# Altium footprint library electronpowered.PcbLib: 83 footprints (part 2 of 6)
Each footprint in its own frame and in the unit in brackets; x right, y up, seen from the top. Pads: shape width x height; smd on the part's side, far side on the other; paste and mask are expansions set on the pad; w line width, h text height; cw(c..) or ccw(c..) is an arc to the next point about the centre after c.
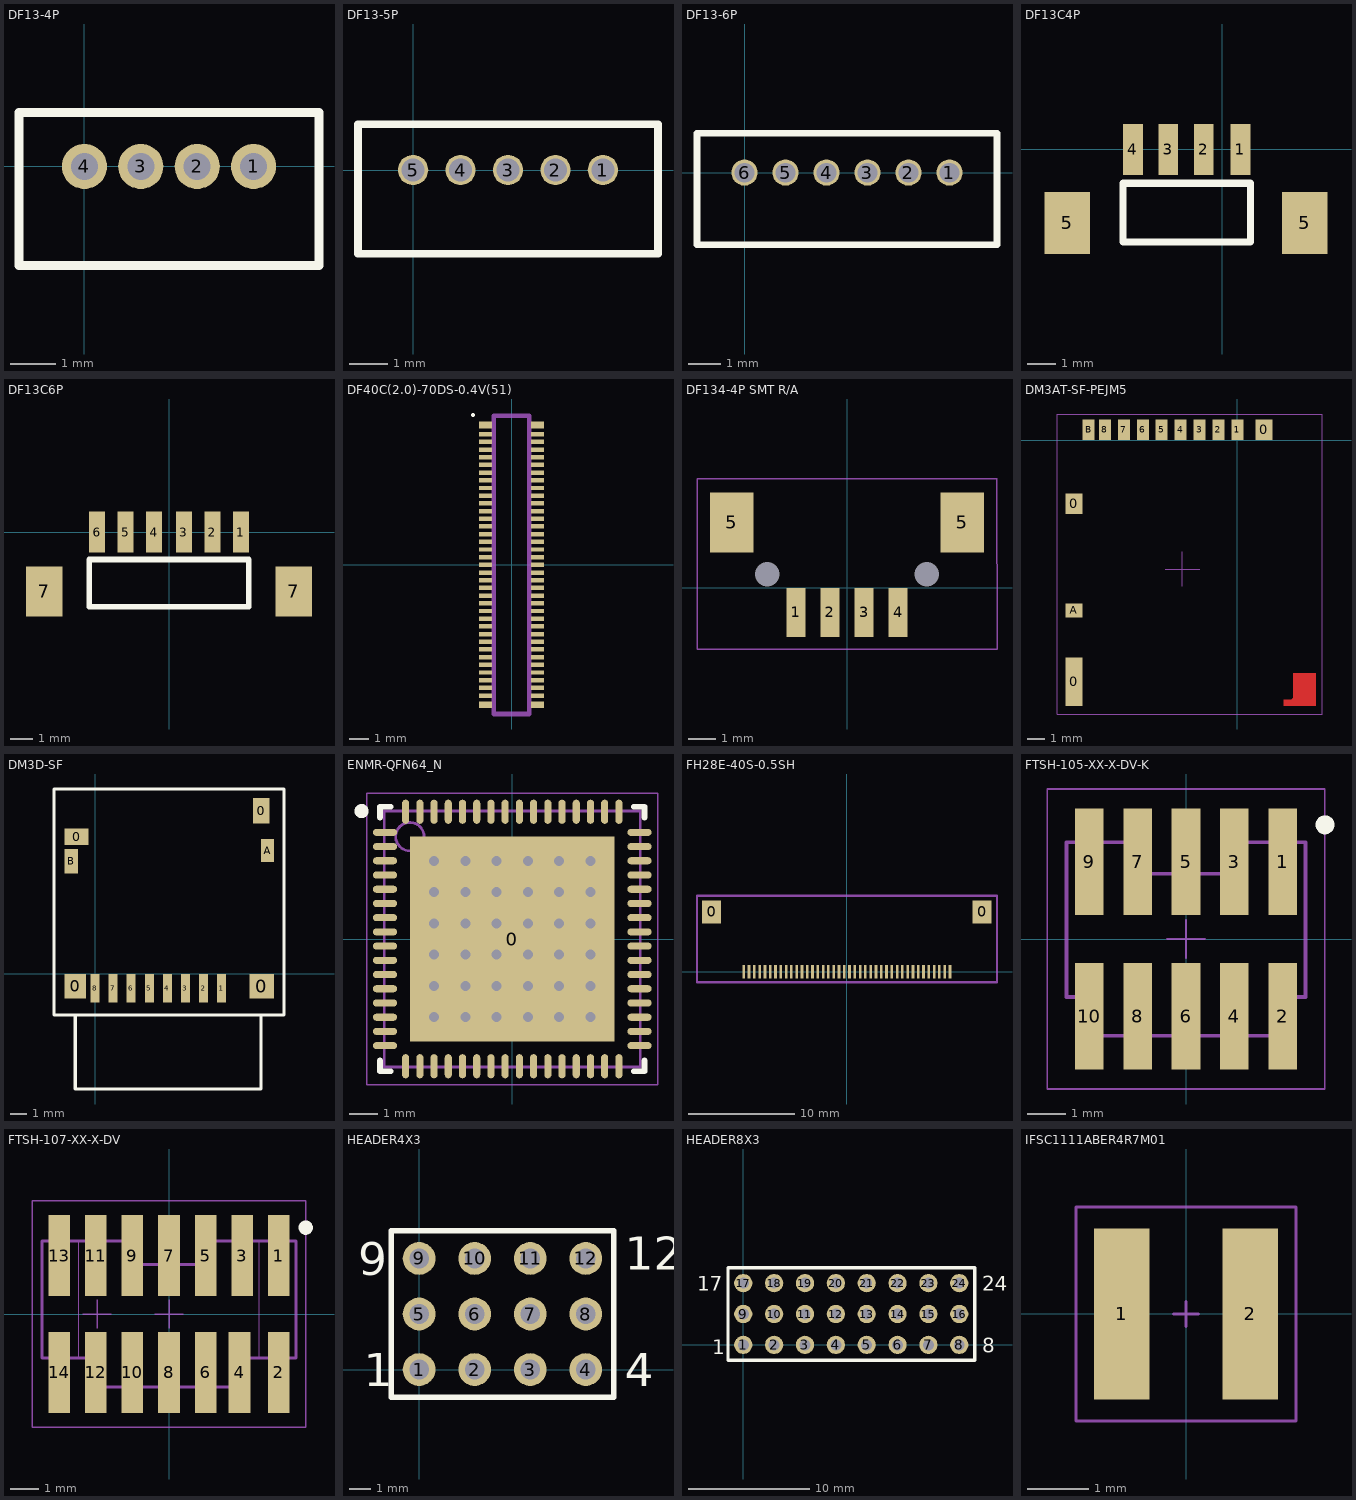
[diagram p1: the footprints below, top view; thin cyan lines are the x and y axes]

## DF13-4P [mm] "4 Pin DF13 through hole"
height 4.3
pads (4):
  round 1 hole 0.6: 1(3.75,0) 2(2.5,0) 3(1.25,0) 4(0,0)
Top Overlay:
  lines w0.2: -1.45,-2.2 5.2,-2.2 5.2,1.2 -1.45,1.2 -1.45,-2.2

## DF13-5P [mm] "5 Pin DF13 through hole"
height 4.3
pads (5):
  round 0.8 hole 0.6: 1(5,0) 2(3.75,0) 3(2.5,0) 4(1.25,0) 5(0,0)
Top Overlay:
  lines w0.2: -1.45,-2.2 6.45,-2.2 6.45,1.2 -1.45,1.2 -1.45,-2.2

## DF13-6P [mm] "6 Pin DF13 through hole"
height 4.3
pads (6):
  round 0.8 hole 0.6: 1(6.25,0) 2(5,0) 3(3.75,0) 4(2.5,0) 5(1.25,0) 6(0,0)
Top Overlay:
  lines w0.2: -1.45,-2.2 -1.45,1.2 7.7,1.2 7.7,-2.2 -1.45,-2.2

## DF13C4P [mm]
pads (6):
  rect 0.7x1.8 smd: 1(0.65,0) 2(-0.65,0) 3(-1.9,0) 4(-3.15,0)
  rect 1.6x2.2 smd: 5(-5.475,-2.6) 5(2.925,-2.6)
Top Overlay:
  lines w0.254: -3.5,-3.27 -3.5,-1.2 1,-1.2 1,-3.27 -3.5,-3.27

## DF13C6P [mm]
pads (8):
  rect 0.7x1.8 smd: 1(3.15,0) 2(1.9,0) 3(0.65,0) 4(-0.65,0) 5(-1.9,0) 6(-3.15,0)
  rect 1.6x2.2 smd: 7(-5.475,-2.6) 7(5.475,-2.6)
Top Overlay:
  lines w0.254: -3.5,-3.27 -3.5,-1.2 3.5,-1.2 3.5,-3.27 -3.5,-3.27

## DF40C(2.0)-70DS-0.4V(51) [mm]
pads (74):
  rect 0.66x0.23 smd: 1(-1.355,6.8) 2(1.355,6.8) 3(-1.355,6.4) 4(1.355,6.4) 5(-1.355,6) 6(1.355,6) 7(-1.355,5.6) 8(1.355,5.6) 9(-1.355,5.2) 10(1.355,5.2) 11(-1.355,4.8) 12(1.355,4.8) 13(-1.355,4.4) 14(1.355,4.4) 15(-1.355,4) 16(1.355,4) 17(-1.355,3.6) 18(1.355,3.6) 19(-1.355,3.2) 20(1.355,3.2) 21(-1.355,2.8) 22(1.355,2.8) 23(-1.355,2.4) 24(1.355,2.4) 25(-1.355,2) 26(1.355,2) 27(-1.355,1.6) 28(1.355,1.6) 29(-1.355,1.2) 30(1.355,1.2) 31(-1.355,0.8) 32(1.355,0.8) 33(-1.355,0.4) 34(1.355,0.4) 35(-1.355,0) 36(1.355,0) 37(-1.355,-0.4) 38(1.355,-0.4) 39(-1.355,-0.8) 40(1.355,-0.8) 41(-1.355,-1.2) 42(1.355,-1.2) 43(-1.355,-1.6) 44(1.355,-1.6) 45(-1.355,-2) 46(1.355,-2) 47(-1.355,-2.4) 48(1.355,-2.4) 49(-1.355,-2.8) 50(1.355,-2.8) 51(-1.355,-3.2) 52(1.355,-3.2) 53(-1.355,-3.6) 54(1.355,-3.6) 55(-1.355,-4) 56(1.355,-4) 57(-1.355,-4.4) 58(1.355,-4.4) 59(-1.355,-4.8) 60(1.355,-4.8) 61(-1.355,-5.2) 62(1.355,-5.2) 63(-1.355,-5.6) 64(1.355,-5.6) 65(-1.355,-6) 66(1.355,-6) 67(-1.355,-6.4) 68(1.355,-6.4) 69(-1.355,-6.8) 70(1.355,-6.8)
  rect 0.66x0.35 smd: ""(-1.355,-7.275) ""(-1.355,7.275) ""(1.355,-7.275) ""(1.355,7.275)
Top Overlay:
  circle w0.1: c-2,7.8 r0.05
Top Comp Body:
  lines w0.254: -0.925,-7.76 -0.925,7.76 0.925,7.76 0.925,-7.76 -0.925,-7.76
3D body "DF40C(2.0)-70DS.stp": height 1.9, standoff -0.05, extent -1.69,-8.285 1.69,8.315

## DF134-4P SMT R/A [mm] "CONN HEADER 4POS 1.25MM R/A TIN"
pads (8):
  rect 0.7x1.8 smd: 1(-1.875,-0.9) 2(-0.625,-0.9) 3(0.625,-0.9) 4(1.875,-0.9)
  rect 1.6x2.2 smd: 5(-4.225,2.4) 5(4.225,2.4)
  round 0 hole 0.9: ""(-2.925,0.5) ""(2.925,0.5)
Top Courtyard:
  lines w0.05: -5.5,-2.25 -5.5,4 5.5,4 5.5,-2.25 -5.5,-2.25

## DM3AT-SF-PEJM5 [mm] "Hirose uSD connector SMT"
pads (13):
  rect 1x2.8 smd: 0(-9.5,-14.05)
  rect 1x1.2 smd: 0(-9.5,-3.7) 0(1.55,0.6)
  rect 0.7x1.2 smd: 1(0,0.6) 2(-1.1,0.6) 3(-2.2,0.6) 4(-3.3,0.6) 5(-4.4,0.6) 6(-5.5,0.6) 7(-6.6,0.6) 8(-7.7,0.6) B(-8.65,0.6)
  rect 1x0.8 smd: A(-9.5,-9.9)
Top Layer:
  region: 2.7,-15.1 2.7,-15.45 4.55,-15.45 4.55,-13.55 3.25,-13.55 3.25,-14.975 3.125,-15.1
Top Courtyard:
  lines w0.05: -4.2,-7.5 -2.2,-7.5 ; -3.2,-8.5 -3.2,-6.5 ; -10.475,-15.925 4.925,-15.925 4.925,1.525 -10.475,1.525 -10.475,-15.925

## DM3D-SF [mm] "Hirose DM3 series MicroSD connector. Push pull type."
height 2
pads (14):
  rect 1.3x1.5 smd: 0(-1.2,-0.75)
  rect 1.45x1 smd: 0(-1.125,8.35)
  rect 1x1.55 smd: 0(10.1,9.925)
  rect 1.5x1.5 smd: 0(10.15,-0.75)
  rect 0.55x1.75 smd: 1(7.7,-0.875) 2(6.6,-0.875) 3(5.5,-0.875) 4(4.4,-0.875) 5(3.3,-0.875) 6(2.2,-0.875) 7(1.1,-0.875) 8(0,-0.875)
  rect 0.8x1.4 smd: A(10.5,7.5)
  rect 0.8x1.5 smd: B(-1.45,6.85)
Top Overlay:
  lines w0.2: -1.2,-2.5 -1.2,-7 10.1,-7 10.1,-2.5 ; -2.5,-2.5 11.5,-2.5 11.5,11.25 -2.5,11.25 -2.5,-2.5

## ENMR-QFN64_N [mm] "QFN, 64-Leads, Body 9x9mm, Pitch 0.5mm, IPC Medium Density"
height 0.9
pads (65):
  rect 7.2x7.2 smd: 0(0,0)
  oval 0.85x0.25 smd: 1(-4.475,3.75) 2(-4.475,3.25) 3(-4.475,2.75) 4(-4.475,2.25) 5(-4.475,1.75) 6(-4.475,1.25) 7(-4.475,0.75) 8(-4.475,0.25) 9(-4.475,-0.25) 10(-4.475,-0.75) 11(-4.475,-1.25) 12(-4.475,-1.75) 13(-4.475,-2.25) 14(-4.475,-2.75) 15(-4.475,-3.25) 16(-4.475,-3.75) 33(4.475,-3.75) 34(4.475,-3.25) 35(4.475,-2.75) 36(4.475,-2.25) 37(4.475,-1.75) 38(4.475,-1.25) 39(4.475,-0.75) 40(4.475,-0.25) 41(4.475,0.25) 42(4.475,0.75) 43(4.475,1.25) 44(4.475,1.75) 45(4.475,2.25) 46(4.475,2.75) 47(4.475,3.25) 48(4.475,3.75)
  oval 0.25x0.85 smd: 17(-3.75,-4.475) 18(-3.25,-4.475) 19(-2.75,-4.475) 20(-2.25,-4.475) 21(-1.75,-4.475) 22(-1.25,-4.475) 23(-0.75,-4.475) 24(-0.25,-4.475) 25(0.25,-4.475) 26(0.75,-4.475) 27(1.25,-4.475) 28(1.75,-4.475) 29(2.25,-4.475) 30(2.75,-4.475) 31(3.25,-4.475) 32(3.75,-4.475) 49(3.75,4.475) 50(3.25,4.475) 51(2.75,4.475) 52(2.25,4.475) 53(1.75,4.475) 54(1.25,4.475) 55(0.75,4.475) 56(0.25,4.475) 57(-0.25,4.475) 58(-0.75,4.475) 59(-1.25,4.475) 60(-1.75,4.475) 61(-2.25,4.475) 62(-2.75,4.475) 63(-3.25,4.475) 64(-3.75,4.475)
via 2.75,-2.75 diameter 0.8 hole 0.35
via 1.65,-2.75 diameter 0.8 hole 0.35
via 0.55,-2.75 diameter 0.8 hole 0.35
via -0.55,-2.75 diameter 0.8 hole 0.35
via -1.65,-2.75 diameter 0.8 hole 0.35
via -2.75,-2.75 diameter 0.8 hole 0.35
via 2.75,-1.65 diameter 0.8 hole 0.35
via 1.65,-1.65 diameter 0.8 hole 0.35
via 0.55,-1.65 diameter 0.8 hole 0.35
via -0.55,-1.65 diameter 0.8 hole 0.35
via -1.65,-1.65 diameter 0.8 hole 0.35
via -2.75,-1.65 diameter 0.8 hole 0.35
via 2.75,-0.55 diameter 0.8 hole 0.35
via 1.65,-0.55 diameter 0.8 hole 0.35
via 0.55,-0.55 diameter 0.8 hole 0.35
via -0.55,-0.55 diameter 0.8 hole 0.35
via -1.65,-0.55 diameter 0.8 hole 0.35
via -2.75,-0.55 diameter 0.8 hole 0.35
via 2.75,0.55 diameter 0.8 hole 0.35
via 1.65,0.55 diameter 0.8 hole 0.35
via 0.55,0.55 diameter 0.8 hole 0.35
via -0.55,0.55 diameter 0.8 hole 0.35
via -1.65,0.55 diameter 0.8 hole 0.35
via -2.75,0.55 diameter 0.8 hole 0.35
via 2.75,1.65 diameter 0.8 hole 0.35
via 1.65,1.65 diameter 0.8 hole 0.35
via 0.55,1.65 diameter 0.8 hole 0.35
via -0.55,1.65 diameter 0.8 hole 0.35
via -1.65,1.65 diameter 0.8 hole 0.35
via -2.75,1.65 diameter 0.8 hole 0.35
via 2.75,2.75 diameter 0.8 hole 0.35
via 1.65,2.75 diameter 0.8 hole 0.35
via 0.55,2.75 diameter 0.8 hole 0.35
via -0.55,2.75 diameter 0.8 hole 0.35
via -1.65,2.75 diameter 0.8 hole 0.35
via -2.75,2.75 diameter 0.8 hole 0.35
Top Overlay:
  circle w0.25: c-5.3,4.5 r0.125
  lines w0.2: -4.65,-4.275 -4.65,-4.65 -4.275,-4.65 ; -4.65,4.275 -4.65,4.65 -4.275,4.65 ; 4.275,-4.65 4.65,-4.65 4.65,-4.275 ; 4.275,4.65 4.65,4.65 4.65,4.275
Top Comp Body:
  circle w0.1: c-3.6,3.6 r0.5
  lines w0.1: -4.5,-4.5 4.5,-4.5 4.5,4.5 -4.5,4.5 -4.5,-4.5
Top Courtyard:
  lines w0.05: -5.125,-5.125 5.125,-5.125 5.125,5.125 -5.125,5.125 -5.125,-5.125
  lines w0.1: -0.5,0 0.5,0 ; 0,-0.5 0,0.5
3D body: height 0.9, standoff 0, extent -4.5,-4.5 4.5,4.5

## FH28E-40S-0.5SH [mm] "CONN FPC 40POS 0.5MM SMD GOLD"
height 2.54
pads (42):
  rect 1.8x2.2 smd: 0(-12.8,5.65) 0(12.8,5.65)
  rect 0.25x1.3 smd: 1(-9.75,0) 2(-9.25,0) 3(-8.75,0) 4(-8.25,0) 5(-7.75,0) 6(-7.25,0) 7(-6.75,0) 8(-6.25,0) 9(-5.75,0) 10(-5.25,0) 11(-4.75,0) 12(-4.25,0) 13(-3.75,0) 14(-3.25,0) 15(-2.75,0) 16(-2.25,0) 17(-1.75,0) 18(-1.25,0) 19(-0.75,0) 20(-0.25,0) 21(0.25,0) 22(0.75,0) 23(1.25,0) 24(1.75,0) 25(2.25,0) 26(2.75,0) 27(3.25,0) 28(3.75,0) 29(4.25,0) 30(4.75,0) 31(5.25,0) 32(5.75,0) 33(6.25,0) 34(6.75,0) 35(7.25,0) 36(7.75,0) 37(8.25,0) 38(8.75,0) 39(9.25,0) 40(9.75,0)
Top Courtyard:
  lines w0.2: -14.175,-1 14.2,-1 14.2,7.175 -14.175,7.175 -14.175,-1

## FTSH-105-XX-X-DV-K [mm] "1.27mm pitch, 10 pin, terminal strip; vertical, SMT"
height 5.97
pads (10):
  rect 0.75x2.8 smd mask+0: 1(2.54,2.03) 2(2.54,-2.03) 3(1.27,2.03) 4(1.27,-2.03) 5(0,2.03) 6(0,-2.03) 7(-1.27,2.03) 8(-1.27,-2.03) 9(-2.54,2.03) 10(-2.54,-2.03)
Top Overlay:
  circle w0.25: c3.65,3 r0.125
Bottom Dimension:
  lines w0.001: -3.137,-1.524 -2.54,-1.524 -2.54,-2.54 2.54,-2.54 2.54,-1.524 3.137,-1.524 3.137,2.54 1.079,2.54 1.079,1.714 -1.079,1.714 -1.079,2.54 -3.137,2.54 -3.137,-1.524
Top Comp Body:
  lines w0.1: -3.137,-1.524 -2.54,-1.524 -2.54,-2.54 2.54,-2.54 2.54,-1.524 3.137,-1.524 3.137,2.54 1.079,2.54 1.079,1.714 -1.079,1.714 -1.079,2.54 -3.137,2.54 -3.137,-1.524
Top Courtyard:
  lines w0.05: -0.5,0 0.5,0 ; 0,-0.5 0,0.5 ; -3.645,-3.937 -3.645,3.937 3.645,3.937 3.645,-3.937 -3.645,-3.937
3D body "FTSH-105-01-X-DV-K.step": height 6.1, standoff -0.03, extent -3.137,-2.921 3.137,2.921

## FTSH-107-XX-X-DV [mm] "1.27mm pitch, 14 pin, terminal strip; vertical, SMT"
height 5.97
pads (14):
  rect 0.75x2.8 smd mask+0: 1(3.81,2.03) 2(3.81,-2.03) 3(2.54,2.03) 4(2.45,-2.03) 5(1.27,2.03) 6(1.27,-2.03) 7(0,2.03) 8(0,-2.03) 9(-1.27,2.03) 10(-1.27,-2.03) 11(-2.54,2.03) 12(-2.54,-2.03) 13(-3.81,2.03) 14(-3.81,-2.03)
Top Overlay:
  circle w0.25: c4.75,3 r0.125
Bottom Dimension:
  lines w0.001: -3.58,1.714 -3.58,2.54 ; -3.137,-1.524 -3.137,2.54 -1.079,2.54 -1.079,1.714 1.079,1.714 1.079,2.54 3.137,2.54 3.137,-1.524 2.54,-1.524 2.54,-2.54 -2.54,-2.54 -2.54,-1.524 -3.137,-1.524
Top Comp Body:
  lines w0.1: -4.407,-1.524 -4.407,2.54 ; -4.4,-1.524 -2.54,-1.524 -2.54,-2.54 2.54,-2.54 2.54,-1.524 4.4,-1.524 ; -4.4,2.54 -1.079,2.54 -1.079,1.714 1.079,1.714 1.079,2.54 4.4,2.54 ; -3.58,1.714 -3.58,2.54 ; 4.407,-1.524 4.407,2.54
Top Courtyard:
  lines w0.05: -3,0 -2,0 ; -2.5,-0.5 -2.5,0.5 ; -0.5,0 0.5,0 ; 0,-0.5 0,0.5 ; -4.75,-3.937 4.75,-3.937 4.75,3.937 -4.75,3.937 -4.75,-3.937

## HEADER4X3 [mm]
height 10
pads (12):
  round 1.5 hole 0.9: 1(0,0) 2(2.54,0) 3(5.08,0) 4(7.62,0) 5(0,2.54) 6(2.54,2.54) 7(5.08,2.54) 8(7.62,2.54) 9(0,5.08) 10(2.54,5.08) 11(5.08,5.08) 12(7.62,5.08)
Top Overlay:
  lines w0.254: -1.27,-1.27 -1.27,6.35 8.89,6.35 8.89,-1.27 -1.27,-1.27
  text "12" at 9.398,4.572 h1.52
  text "1" at -2.54,-0.762 h1.52
  text "4" at 9.398,-0.762 h1.52
  text "9" at -2.794,4.318 h1.52

## HEADER8X3 [mm]
height 10
pads (24):
  round 1.5 hole 0.9: 1(0,0) 2(2.54,0) 3(5.08,0) 4(7.62,0) 5(10.16,0) 6(12.7,0) 7(15.24,0) 8(17.78,0) 9(0,2.54) 10(2.54,2.54) 11(5.08,2.54) 12(7.62,2.54) 13(10.16,2.54) 14(12.7,2.54) 15(15.24,2.54) 16(17.78,2.54) 17(0,5.08) 18(2.54,5.08) 19(5.08,5.08) 20(7.62,5.08) 21(10.16,5.08) 22(12.7,5.08) 23(15.24,5.08) 24(17.78,5.08)
Top Overlay:
  lines w0.254: -1.27,-1.27 -1.27,6.35 8.89,6.35 19.05,6.35 19.05,-1.27 8.89,-1.27 -1.27,-1.27
  text "24" at 19.685,4.445 h1.2
  text "1" at -2.54,-0.762 h1.2
  text "8" at 19.685,-0.635 h1.2
  text "17" at -3.81,4.445 h1.2

## IFSC1111ABER4R7M01 [mm] "Vishay Dale SMD power inductor"
height 1.3
pads (2):
  rect 0.9x2.8 smd: 1(-1.05,0) 2(1.05,0)
Top Courtyard:
  lines w0.05: -0.2,0 0.2,0 ; 0,-0.2 0,0.2 ; -1.8,-1.75 1.8,-1.75 1.8,1.75 -1.8,1.75 -1.8,-1.75